# Altium footprint library WE-CBF HF.PcbLib: 4 footprints
Each footprint in its own frame and in the unit in brackets; x right, y up, seen from the top. Pads: shape width x height; smd on the part's side, far side on the other; paste and mask are expansions set on the pad; w line width, h text height; cw(c..) or ccw(c..) is an arc to the next point about the centre after c.
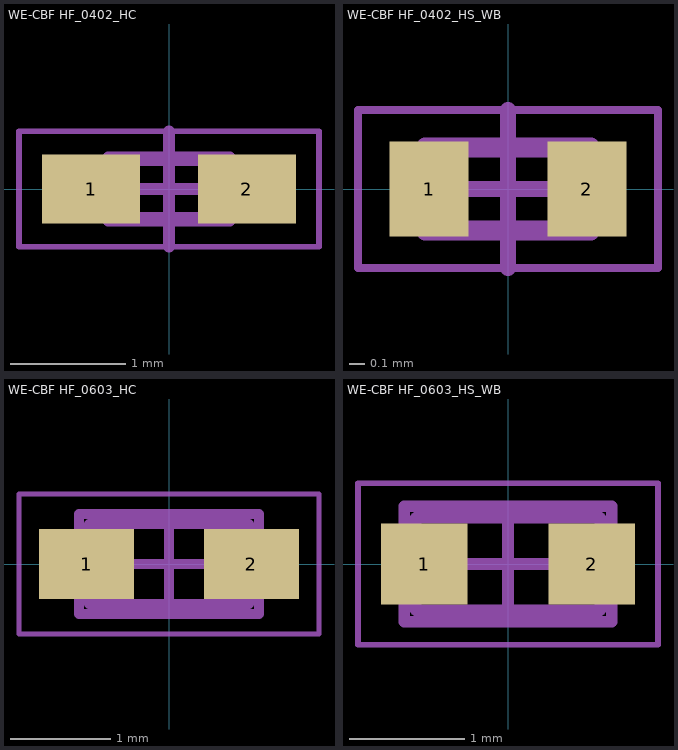
[diagram p0: the footprints below, top view; thin cyan lines are the x and y axes]

## WE-CBF HF_0402_HC [mm] "SMD EMI Suppression Ferrite  Bead, body 1.00x0.50mm"
height 0.55
pads (2):
  rect 0.85x0.6 smd: 1(-0.675,0) 2(0.675,0)
Top Assembly:
  lines w0.1: -0.525,-0.275 -0.525,0.275 0.525,0.275 0.525,-0.275 -0.525,-0.275
Top Designator:
  text ".Designator" at -3.647,-0.357 h1
Top 3D Body:
  lines w0.1: -0.5,-0.25 -0.5,0.25 0.5,0.25 0.5,-0.25 -0.5,-0.25
Top Courtyard:
  lines w0.05: -1.3,-0.5 -1.3,0.5 1.3,0.5 1.3,-0.5 -1.3,-0.5
Top Component Center:
  lines w0.1: -0.5,0 0.5,0 ; 0,-0.5 0,0.5
3D body "WE-CBF_HF_0402_1.stp": height 0.5, standoff 0, extent -0.5,-0.25 0.5,0.25

## WE-CBF HF_0402_HS_WB [mm] "SMD EMI Suppression Ferrite  Bead, body 1.00x0.50mm"
height 0.5
pads (2):
  rect 0.5x0.6 smd: 1(-0.5,0) 2(0.5,0)
Top Assembly:
  lines w0.1: -0.525,-0.275 0.525,-0.275 0.525,0.275 -0.525,0.275 -0.525,-0.275
Top Designator:
  text ".Designator" at -3.647,-0.357 h1
Top 3D Body:
  lines w0.1: -0.5,-0.25 0.5,-0.25 0.5,0.25 -0.5,0.25 -0.5,-0.25
Top Courtyard:
  lines w0.05: -0.95,-0.5 0.95,-0.5 0.95,0.5 -0.95,0.5 -0.95,-0.5
Top Component Center:
  lines w0.1: -0.5,0 0.5,0 ; 0,-0.5 0,0.5
3D body "WE-CBF_HF_0402_1.stp": height 0.5, standoff 0, extent -0.5,-0.25 0.5,0.25

## WE-CBF HF_0603_HC [mm] "SMD EMI Suppression Ferrite  Bead, body 1.60x0.80mm"
height 1
pads (2):
  rect 0.95x0.7 smd: 1(-0.825,0) 2(0.825,0)
Top Assembly:
  lines w0.1: -0.9,-0.5 -0.9,0.5 0.9,0.5 0.9,-0.5 -0.9,-0.5
Top Designator:
  text ".Designator" at -3.647,-0.357 h1
Top 3D Body:
  lines w0.1: -0.8,-0.4 -0.8,0.4 0.8,0.4 0.8,-0.4 -0.8,-0.4
Top Courtyard:
  lines w0.05: -1.5,-0.7 -1.5,0.7 1.5,0.7 1.5,-0.7 -1.5,-0.7
Top Component Center:
  lines w0.1: -0.5,0 0.5,0 ; 0,-0.5 0,0.5
3D body "WE-CBF_HF_0603_1.stp": height 0.8, standoff 0, extent -0.8,-0.4 0.8,0.4

## WE-CBF HF_0603_HS_WB [mm] "SMD EMI Suppression Ferrite  Bead, body 1.60x0.80mm"
height 0.8
pads (2):
  rect 0.75x0.7 smd: 1(-0.725,0) 2(0.725,0)
Top Assembly:
  lines w0.1: -0.9,-0.5 -0.9,0.5 0.9,0.5 0.9,-0.5 -0.9,-0.5
Top Designator:
  text ".Designator" at -3.647,-0.357 h1
Top 3D Body:
  lines w0.1: -0.8,-0.4 -0.8,0.4 0.8,0.4 0.8,-0.4 -0.8,-0.4
Top Courtyard:
  lines w0.05: -1.3,-0.7 -1.3,0.7 1.3,0.7 1.3,-0.7 -1.3,-0.7
Top Component Center:
  lines w0.1: -0.5,0 0.5,0 ; 0,-0.5 0,0.5
3D body "WE-CBF_HF_0603_1.stp": height 0.8, standoff 0, extent -0.8,-0.4 0.8,0.4